# Altium footprint library Header_2x17P.PcbLib: 1 footprints
Each footprint in its own frame and in the unit in brackets; x right, y up, seen from the top. Pads: shape width x height; smd on the part's side, far side on the other; paste and mask are expansions set on the pad; w line width, h text height; cw(c..) or ccw(c..) is an arc to the next point about the centre after c.
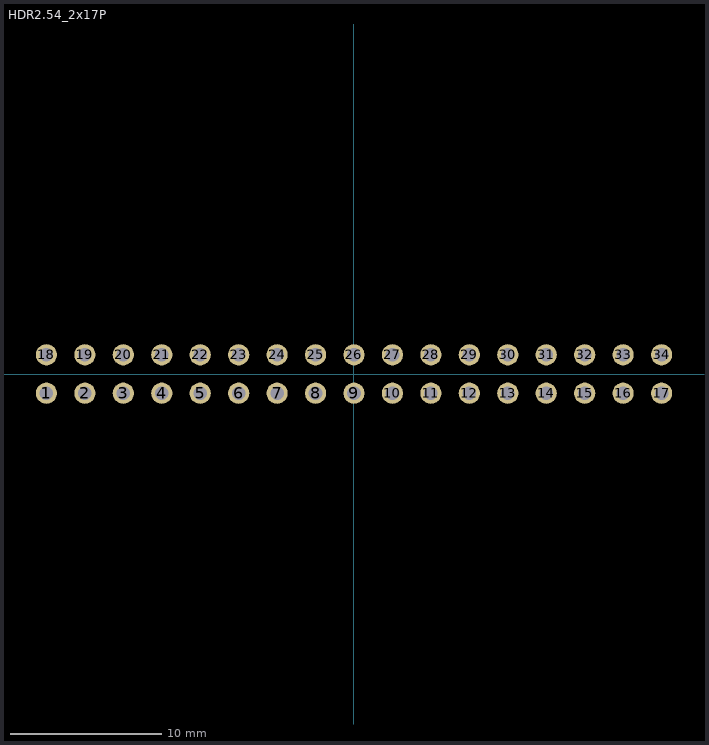
[diagram p0: the footprint, top view; thin cyan lines are the x and y axes]

## HDR2.54_2x17P [mm]
pads (34):
  round 1.4 hole 0.9 mask+0: 1(-20.32,-1.27) 2(-17.78,-1.27) 3(-15.24,-1.27) 4(-12.7,-1.27) 5(-10.16,-1.27) 6(-7.62,-1.27) 7(-5.08,-1.27) 8(-2.54,-1.27) 9(0,-1.27) 10(2.54,-1.27) 11(5.08,-1.27) 12(7.62,-1.27) 13(10.16,-1.27) 14(12.7,-1.27) 15(15.24,-1.27) 16(17.78,-1.27) 17(20.32,-1.27) 18(-20.32,1.27) 19(-17.78,1.27) 20(-15.24,1.27) 21(-12.7,1.27) 22(-10.16,1.27) 23(-7.62,1.27) 24(-5.08,1.27) 25(-2.54,1.27) 26(0,1.27) 27(2.54,1.27) 28(5.08,1.27) 29(7.62,1.27) 30(10.16,1.27) 31(12.7,1.27) 32(15.24,1.27) 33(17.78,1.27) 34(20.32,1.27)
3D body "HDR2.54-1P.STEP": height 8.5, standoff -3, extent 19.05,0 21.59,2.54
3D body "HDR2.54-1P.STEP": height 8.5, standoff -3, extent 16.51,0 19.05,2.54
3D body "HDR2.54-1P.STEP": height 8.5, standoff -3, extent 13.97,0 16.51,2.54
3D body "HDR2.54-1P.STEP": height 8.5, standoff -3, extent 8.89,0 11.43,2.54
3D body "HDR2.54-1P.STEP": height 8.5, standoff -3, extent 11.43,0 13.97,2.54
3D body "HDR2.54-1P.STEP": height 8.5, standoff -3, extent 6.35,0 8.89,2.54
3D body "HDR2.54-1P.STEP": height 8.5, standoff -3, extent 1.27,0 3.81,2.54
3D body "HDR2.54-1P.STEP": height 8.5, standoff -3, extent 3.81,0 6.35,2.54
3D body "HDR2.54-1P.STEP": height 8.5, standoff -3, extent -1.27,0 1.27,2.54
3D body "HDR2.54-1P.STEP": height 8.5, standoff -3, extent -6.35,0 -3.81,2.54
3D body "HDR2.54-1P.STEP": height 8.5, standoff -3, extent -3.81,0 -1.27,2.54
3D body "HDR2.54-1P.STEP": height 8.5, standoff -3, extent -8.89,0 -6.35,2.54
3D body "HDR2.54-1P.STEP": height 8.5, standoff -3, extent -13.97,0 -11.43,2.54
3D body "HDR2.54-1P.STEP": height 8.5, standoff -3, extent -11.43,0 -8.89,2.54
3D body "HDR2.54-1P.STEP": height 8.5, standoff -3, extent -16.51,0 -13.97,2.54
3D body "HDR2.54-1P.STEP": height 8.5, standoff -3, extent -21.59,0 -19.05,2.54
3D body "HDR2.54-1P.STEP": height 8.5, standoff -3, extent -19.05,0 -16.51,2.54
3D body "HDR2.54-1P.STEP": height 8.5, standoff -3, extent 19.05,-2.54 21.59,0
3D body "HDR2.54-1P.STEP": height 8.5, standoff -3, extent 16.51,-2.54 19.05,0
3D body "HDR2.54-1P.STEP": height 8.5, standoff -3, extent 13.97,-2.54 16.51,0
3D body "HDR2.54-1P.STEP": height 8.5, standoff -3, extent 8.89,-2.54 11.43,0
3D body "HDR2.54-1P.STEP": height 8.5, standoff -3, extent 11.43,-2.54 13.97,0
3D body "HDR2.54-1P.STEP": height 8.5, standoff -3, extent 6.35,-2.54 8.89,0
3D body "HDR2.54-1P.STEP": height 8.5, standoff -3, extent 1.27,-2.54 3.81,0
3D body "HDR2.54-1P.STEP": height 8.5, standoff -3, extent 3.81,-2.54 6.35,0
3D body "HDR2.54-1P.STEP": height 8.5, standoff -3, extent -1.27,-2.54 1.27,0
3D body "HDR2.54-1P.STEP": height 8.5, standoff -3, extent -6.35,-2.54 -3.81,0
3D body "HDR2.54-1P.STEP": height 8.5, standoff -3, extent -3.81,-2.54 -1.27,0
3D body "HDR2.54-1P.STEP": height 8.5, standoff -3, extent -8.89,-2.54 -6.35,0
3D body "HDR2.54-1P.STEP": height 8.5, standoff -3, extent -13.97,-2.54 -11.43,0
3D body "HDR2.54-1P.STEP": height 8.5, standoff -3, extent -11.43,-2.54 -8.89,0
3D body "HDR2.54-1P.STEP": height 8.5, standoff -3, extent -16.51,-2.54 -13.97,0
3D body "HDR2.54-1P.STEP": height 8.5, standoff -3, extent -21.59,-2.54 -19.05,0
3D body "HDR2.54-1P.STEP": height 8.5, standoff -3, extent -19.05,-2.54 -16.51,0